# EAGLE library part XC2C32A (library Xilinx)
Xilinx Coiolrunner 2 CPLD in a QFG32 package
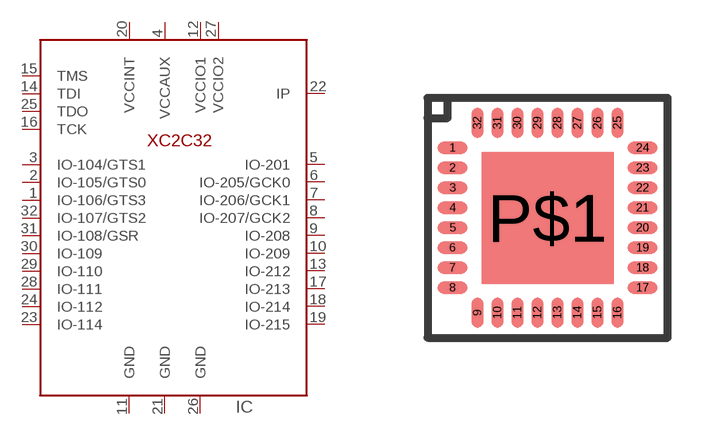
[diagram p42: symbol with the pads of QFG32; footprint QFG32]

Designator prefix IC

## XC2C32A  [QFG32]
1  IO-106/GTS3
2  IO-105/GTS0
3  IO-104/GTS1
4  VCCAUX
5  IO-201
6  IO-205/GCK0
7  IO-206/GCK1
8  IO-207/GCK2
9  IO-208
10  IO-209
11  GND
12  VCCIO1
13  IO-212
14  TDI
15  TMS
16  TCK
17  IO-213
18  IO-214
19  IO-215
20  VCCINT
21  GND
22  IP  in
23  IO-114
24  IO-112
25  TDO
26  GND
27  VCCIO2
28  IO-111
29  IO-110
30  IO-109
31  IO-108/GSR
32  IO-107/GTS2

## Footprint QFG32 (pad centres in mm)
smd 0.75 x 0.3: 1 -2.375,1.75; 2 -2.375,1.25; 3 -2.375,0.75; 4 -2.375,0.25; 5 -2.375,-0.25; 6 -2.375,-0.75; 7 -2.375,-1.25; 8 -2.375,-1.75; 17 2.375,-1.75; 18 2.375,-1.25; 19 2.375,-0.75; 20 2.375,-0.25; 21 2.375,0.25; 22 2.375,0.75; 23 2.375,1.25; 24 2.375,1.75
smd 0.3 x 0.75: 9 -1.75,-2.375; 10 -1.25,-2.375; 11 -0.75,-2.375; 12 -0.25,-2.375; 13 0.25,-2.375; 14 0.75,-2.375; 15 1.25,-2.375; 16 1.75,-2.375; 25 1.75,2.375; 26 1.25,2.375; 27 0.75,2.375; 28 0.25,2.375; 29 -0.25,2.375; 30 -0.75,2.375; 31 -1.25,2.375; 32 -1.75,2.375
smd 3.3 x 3.3: P$1 0,0